# Altium footprint library ALE12B12.PcbLib: 1 footprints
Each footprint in its own frame and in the unit in brackets; x right, y up, seen from the top. Pads: shape width x height; smd on the part's side, far side on the other; paste and mask are expansions set on the pad; w line width, h text height; cw(c..) or ccw(c..) is an arc to the next point about the centre after c.
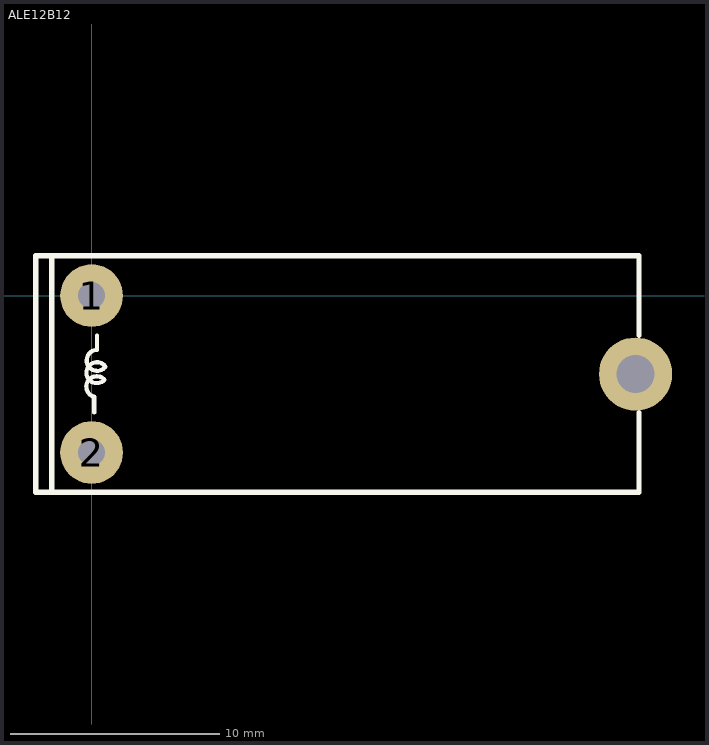
[diagram p0: the footprint, top view; thin cyan lines are the x and y axes]

## ALE12B12 [mm]
pads (3):
  round 3 hole 1.3: 1(0,0) 2(0,-7.5)
  round 3.5 hole 1.8: ""(26,-3.75)
Top Overlay:
  lines w0.2: 0.124,-5.585 0.124,-4.838 cw(c0.246,-4.353) 0.621,-4.023 cw(c0.254,-3.683) 0.664,-3.396 cw(c0.263,-3.097) 0.263,-2.597 0.263,-1.914
  lines w0.254: 26.162,-5.588 26.162,-9.398 -1.905,-9.398 ; 26.162,-1.905 26.162,1.905 -1.905,1.905 ; -1.905,-9.398 -1.905,1.905 ; -1.905,-9.398 -2.667,-9.398 -2.667,1.905 -1.905,1.905
3D body "rele ale12b12.STEP": height 33.6, standoff -3.3, extent -1.905,-9.883 26.695,2.517